# Altium schematic symbol library CEP99-102.SchLib: 1 symbol
Pins are listed as number, name and electrical type; pins without a type are passive.

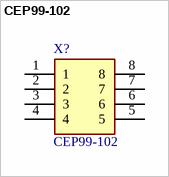
[diagram p0: symbol CEP99-102]

## CEP99-102
designator X?
Pulse transformer for Automobiles.High withstand Voltage  2,500Vrms,Operating temperature  - 40deg.  +125deg.; Manufacturer_Name: Sumida; Geometry.Height: 10mm; Mouser Part Number: *; Mouser Price/Stock: *; Manufacturer_Part_Number: CEP99-102; Datasheet Link: https://products.sumida.com/products/pdf/CEP99_CEP99B_eng_rev2.pdf?t=1532030986
footprint CEP99102
pins: 1, 2, 3, 4, 5, 6, 7, 8